# EAGLE library part WE-POE+_EP13 (library Wurth_Elektronik_Passive_rev16c)
Power over Ethernet Plus Transformer Characteristics Designed to meet 25 W PoE+ requirements of IEEE802.3at Frequency range: 250–400 kHz Input voltage range: 36–72 V 1.5 kV Hipot test between primary and secondary Operating temperature: –40 °C to +125 °C Applications PoE+ powered devices IP phones WLAN-Access points Security cameras <http://katalog.we-online.de/media/images/eisos/UtPOE+_MID_pf2.jpg> Details see: http://katalog.we-online.de/en/pbs/WE-PoE_Plus? Updated by Dan Xu 2014-07-08 2014 (C) Wurth Elektronik
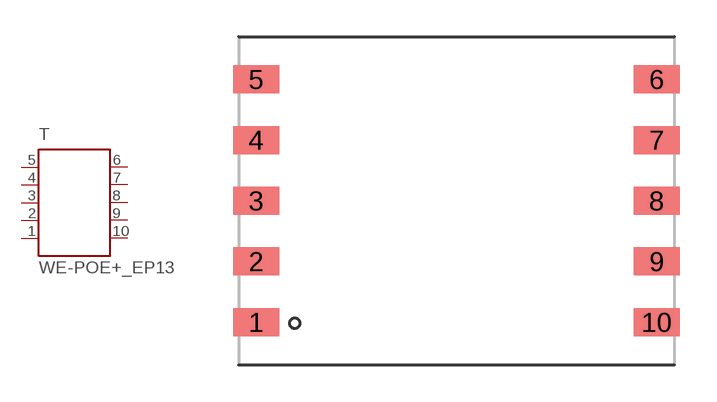
[diagram p23: symbol with the pads of WE_EP13_SMD_10PIN; footprint WE_EP13_SMD_10PIN]

Designator prefix T

## WE-POE+_EP13  [WE_EP13_SMD_10PIN]
1  5  pas
2  4  pas
3  3  pas
4  2  pas
5  1  pas
6  10  pas
7  9  pas
8  8  pas
9  7  pas
10  6  pas

## Footprint WE_EP13_SMD_10PIN (pad centres in mm)
Transformer, EP13 SMD 10 Pin
smd 1.88 x 1.143: 1 -8.18,-4.96; 2 -8.18,-2.48; 3 -8.18,0; 4 -8.18,2.48; 5 -8.18,4.96; 6 8.18,4.96; 7 8.18,2.48; 8 8.18,0; 9 8.18,-2.48; 10 8.18,-4.96